# Altium schematic symbol library Schlib1.SchLib: 4 symbols
Pins are listed as number, name and electrical type; pins without a type are passive.

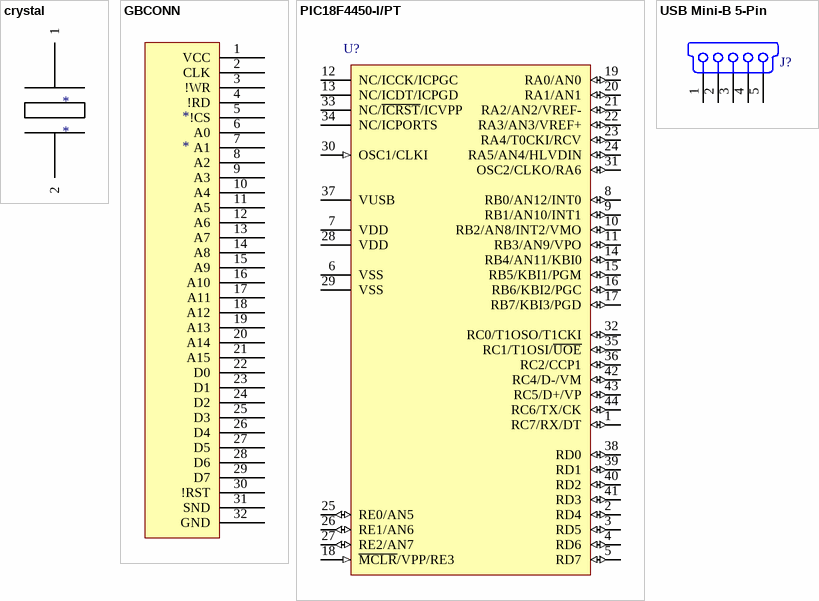
[diagram p0: symbols crystal to USB Mini-B 5-Pin]

## crystal
designator *
footprint PCBComponent_1
pins: ?1 1, ?2 2

## GBCONN
designator *
footprint GBCONN
pins: 1 VCC, 2 CLK, 3 !WR, 4 !RD, 5 !CS, 6 A0, 7 A1, 8 A2, 9 A3, 10 A4, 11 A5, 12 A6, 13 A7, 14 A8, 15 A9, 16 A10, 17 A11, 18 A12, 19 A13, 20 A14, 21 A15, 22 D0, 23 D1, 24 D2, 25 D3, 26 D4, 27 D5, 28 D6, 29 D7, 30 !RST, 31 SND, 32 GND

## PIC18F4450-I/PT
designator U?
High Performance, 12 MIPS, Enhanced Flash, USB Microcontroller with nanoWatt Technology, 16K Flash, 44-Pin TQFP, Industrial Temperature Range; Published: 29-Jan-2009; DatasheetVersion: revD, Mar-2008; PackageVersion: revBB, Aug-2009; PackageReference: TQFP-PT44; Publisher: Altium Limited; PackageDescription: 44-Lead Plastic Thin Quad Flatpack (PT) - 10x10x1mm Body, 2.00mm [TQFP]; Supplier 1: Digi-Key; Supplier Part Number 1: PIC18F4450-I/PT-ND; Supplier 2: Farnell; Supplier Part Number 2: 1332265; Code_JEDEC: MS-026; ComponentLink1Description: Datasheet; ComponentLink1URL: http://ww1.microchip.com/downloads/en/DeviceDoc/39760d.pdf; ComponentLink2Description: Packaging Specification; ComponentLink2URL: http://www.microchip.com/stellent/groups/techpub_sg/documents/packagingspec/en012702.pdf; ComponentLink3Description: Microchip.com Home; ComponentLink3URL: http://www.microchip.com/
footprint TQFP-PT44_N (Thin QFP, 44-Leads, Body 10x10mm, Pitch 0.8mm, IPC Medium Density)
footprint TQFP-PT44_M (Thin QFP, 44-Leads, Body 10x10mm, Pitch 0.8mm, IPC Low Density)
pins: 1 RC7/RX/DT (io), 2 RD4 (io), 3 RD5 (io), 4 RD6 (io), 5 RD7 (io), 6 VSS (power), 7 VDD (power), 8 RB0/AN12/INT0 (io), 9 RB1/AN10/INT1 (io), 10 RB2/AN8/INT2/VMO (io), 11 RB3/AN9/VPO (io), 12 NC/ICCK/ICPGC, 13 NC/ICDT/ICPGD, 14 RB4/AN11/KBI0 (io), 15 RB5/KBI1/PGM (io), 16 RB6/KBI2/PGC (io), 17 RB7/KBI3/PGD (io), 18 ~{MCLR}/VPP/RE3 (in), 19 RA0/AN0 (io), 20 RA1/AN1 (io), 21 RA2/AN2/VREF- (io), 22 RA3/AN3/VREF+ (io), 23 RA4/T0CKI/RCV (io), 24 RA5/AN4/HLVDIN (io), 25 RE0/AN5 (io), 26 RE1/AN6 (io), 27 RE2/AN7 (io), 28 VDD (power), 29 VSS (power), 30 OSC1/CLKI (in), 31 OSC2/CLKO/RA6 (io), 32 RC0/T1OSO/T1CKI (io), 33 NC/~{ICRST}/ICVPP, 34 NC/ICPORTS, 35 RC1/T1OSI/~{UOE} (io), 36 RC2/CCP1 (io), 37 VUSB (power), 38 RD0 (io), 39 RD1 (io), 40 RD2 (io), 41 RD3 (io), 42 RC4/D-/VM (io), 43 RC5/D+/VP (io), 44 RC6/TX/CK (io)

## USB Mini-B 5-Pin
designator J?
USB On-The-Go (OTG) Mini-B Receptacle, Right Angle, SMT, 0.80mm (.031") Pitch, Solder Tabs with Back Cover, Recessed Type; PCB_Layout: Complies with Manufacturer's Recommendation.; Published: 21-Sep-2007; DatasheetVersion: revA, May-2004; PackageVersion: May-2004; PackageReference: 481900001; Publisher: Altium Limited; PackageDescription: USB Mini-B, Sinking Type, SM; 5 Position; Right Angle, Body 11.45 x 11.8 x 3.9 mm (LxWxH); ComponentLink1Description: Manufacturer Link; ComponentLink1URL: http://www.molex.com/; ComponentLink2Description: Datasheet; ComponentLink2URL: http://www.molex.com/cmc_upload/0/000/895/958/SD-48190-001RevA.pdf
signal-integrity model USB Mini-B
footprint USB
pins: 1 V BUS (5V) "USB Vcc [Red]", 2 D- "USB Data - [White]", 3 D+ "USB Data + [Green]", 4 NC "Not Connected (or joined to pin 5 via resistor)", 5 GND "Ground [Black]"